# EAGLE library part SOPROD-MICROMOTOR-DUAL (library OpenChronograph)
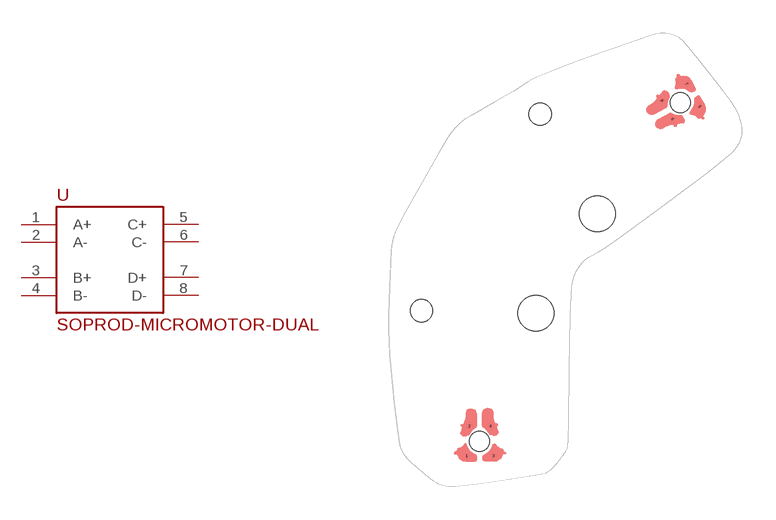
[diagram p0: symbol with the pads of SOPROD-DUAL; footprint SOPROD-DUAL]

Designator prefix -

## SOPROD-MICROMOTOR-DUAL  [SOPROD-DUAL]
1  A+
2  A-
3  B+
4  B-
5  C+
6  C-
7  D+
8  D-

## Footprint SOPROD-DUAL (pad centres in mm)
smd 0.305 x 0.152: 1 -0.58,-0.65; 2 -0.47,0.69; 3 0.61,-0.65; 4 0.49,0.69
smd 0.305 x 0.152 rotated 120: 5 9.903,15.083; 6 8.687,14.508; 7 9.308,16.113; 8 8.207,15.339
hole 0.9 at 0,0
hole 1.6 at 2.533,5.783
hole 1.6 at 5.3,10.25
hole 0.9 at 9.04,15.26
hole 1 at 2.723,14.74
hole 1 at -2.617,5.883